# Altium footprint library PCB3 - 5x5 - placement V21.PcbLib: 19 footprints (part 1 of 2)
Each footprint in its own frame and in the unit in brackets; x right, y up, seen from the top. Pads: shape width x height; smd on the part's side, far side on the other; paste and mask are expansions set on the pad; w line width, h text height; cw(c..) or ccw(c..) is an arc to the next point about the centre after c.
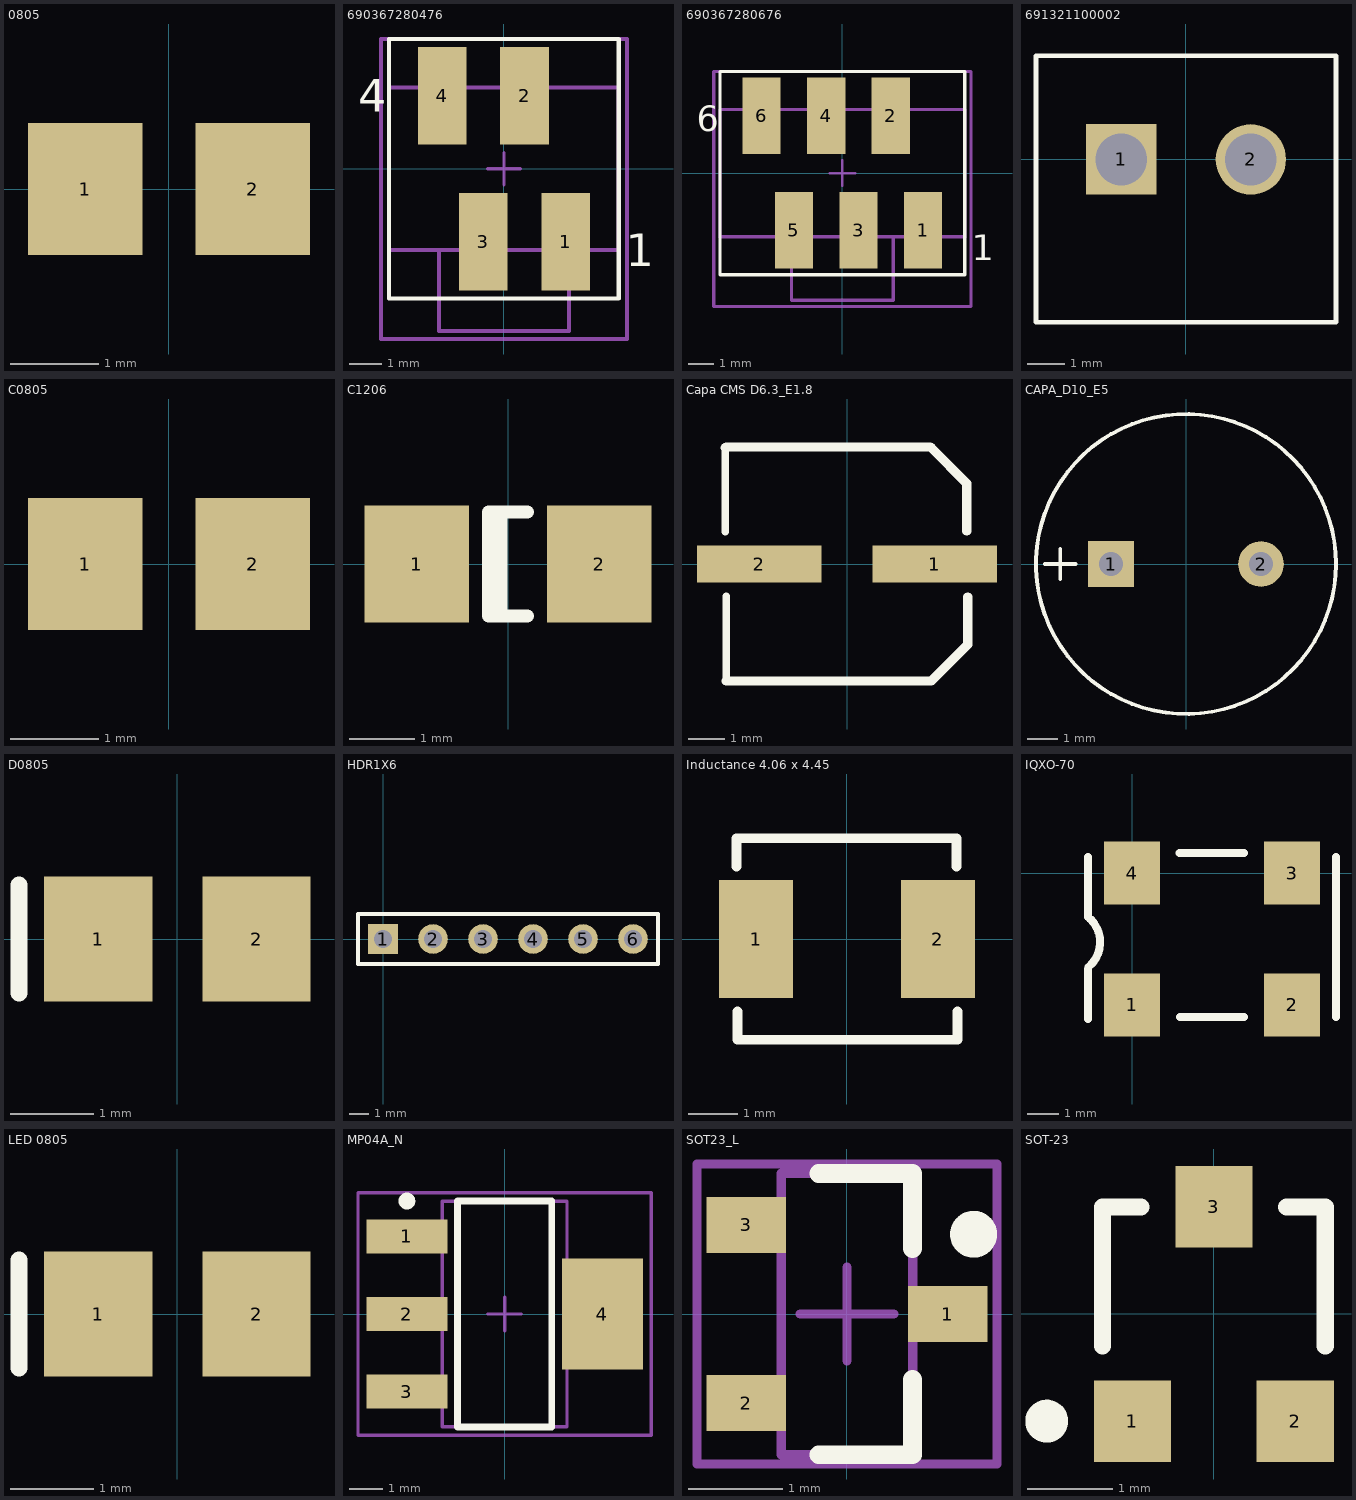
[diagram p0: the footprints below, top view; thin cyan lines are the x and y axes]

## 0805 [mm] "Chip Resistor; Body 2.0 x 1.3 mm (LxW typ)"
height 2.54
pads (2):
  rect 1.3x1.5 smd: 1(-0.95,0) 2(0.95,0)
Mechanical 27:
  text ".Comment" at -1.425,-0.425 h1
Mechanical 29:
  text ".Designator" at -1.4,-0.375 h1
3D body: height 0.78, standoff 0, extent -1,-0.625 1,0.625

## 690367280476 [mm] "without Latch, 4 pins, SMT, straight"
height 5.75
pads (4):
  rect 1.5x3 smd: 1(1.905,-2.25) 2(0.635,2.25) 3(-0.635,-2.25) 4(-1.905,2.25)
Top Overlay:
  lines w0.127: -3.54,-4 3.54,-4 3.54,4 -3.54,4 -3.54,-4
  text "1" at 3.75,-3 h1
  text "4" at -4.5,1.75 h1
Mechanical 13:
  lines w0.127: -2.47,-2.5 2.73,-2.5 ; -3.54,-2.5 -3.54,2.5 3.54,2.5 3.54,-2.5 2,-2.5 2,-5 -2,-5 -2,-2.5 -3.54,-2.5
Mechanical 15:
  lines w0.1: -0.5,0 0.5,0 ; 0,-0.5 0,0.5
  lines w0.127: -3.79,-5.25 -3.79,4 3.79,4 3.79,-5.25 -3.79,-5.25
3D body: height 5.7, standoff -0.05, extent -3.54,-5 3.54,3.5

## 690367280676 [mm] "without Latch, 6 pins, SMT, straight"
height 5.75
pads (6):
  rect 1.5x3 smd: 1(3.175,-2.25) 2(1.905,2.25) 3(0.635,-2.25) 4(-0.635,2.25) 5(-1.905,-2.25) 6(-3.175,2.25)
Top Overlay:
  lines w0.127: -4.81,-4 4.81,-4 4.81,4 -4.81,4 -4.81,-4
  text "6" at -5.715,1.651 h1
  text "1" at 5.08,-3.429 h1
Mechanical 13:
  lines w0.127: -4.81,-2.5 4.81,-2.5 4.81,2.5 -4.81,2.5 -4.81,-2.5 ; -2,-5 -2,-2.502 2,-2.502 2,-5 -2,-5
Mechanical 15:
  lines w0.1: -0.5,0 0.5,0 ; 0,-0.5 0,0.5
  lines w0.127: -5.06,-5.25 -5.06,4 5.06,4 5.06,-5.25 -5.06,-5.25
3D body: height 5.75, standoff 0, extent -4.81,-5 4.81,3.5

## 691321100002 [mm] "3,50mm - PCB Vertical - 02p"
height 9.2
pads (2):
  rect 1.9x1.9 hole 1.4: 1(-1.75,0)
  round 1.9 hole 1.4: 2(1.75,0)
Top Overlay:
  lines w0.127: -4.05,-4.4 4.05,-4.4 4.05,2.8 -4.05,2.8 -4.05,-4.4
3D body: height 9.21, standoff -3.49, extent -4.05,-4.4 4.05,2.8

## C0805 [mm] "Chip Resistor; Body 2.0 x 1.3 mm (LxW typ)"
height 2.54
pads (2):
  rect 1.3x1.5 smd: 1(-0.95,0) 2(0.95,0)
3D body: height 0.78, standoff 0, extent -0.975,-0.625 1.025,0.625

## C1206 [mm] "Chip Capacitor; Body 3.2 x 1.6 mm (LxW typ)"
height 1.35
pads (2):
  rect 1.6x1.8 smd: 1(-1.4,0) 2(1.4,0)
Top Overlay:
  lines w0.2: -0.11,-0.8 -0.11,0.8 ; 0.3,-0.8 -0.3,-0.8 -0.3,0.8 0.3,0.8

## Capa CMS D6.3_E1.8 [mm]
pads (2):
  rect 3.4x1 smd: 1(2.4,0) 2(-2.4,0)
Top Overlay:
  lines w0.2: -3.325,0.875 -3.325,3.175 ; -3.3,-3.2 -3.3,-0.875
  lines w0.254: -3.325,3.175 -3.3,3.2 2.275,3.2 ; -3.3,-3.2 2.3,-3.2 3.2,-2.3 ; 2.3,3.175 3.275,2.2 3.275,0.9 ; 2.325,-3.175 3.3,-2.2 3.3,-0.9
3D body: height 8, standoff 0, extent -3.775,-3.3 3.825,3.3

## CAPA_D10_E5 [mm]
pads (2):
  rect 1.524x1.524 hole 0.8: 1(-2.5,0)
  round 1.524 hole 0.8: 2(2.5,0)
Top Overlay:
  circle w0.127: c0,0 r5
  lines w0.127: -4.699,0 -3.683,0 ; -4.191,-0.508 -4.191,0.508
3D body: height 12, standoff -2.5, extent -5,-5 5,5

## D0805 [mm] "Chip Capacitor; Body 2.0 x 1.2 mm (LxW typ)"
height 1.1
pads (2):
  rect 1.3x1.5 smd: 1(-0.95,0) 2(0.95,0)
Top Overlay:
  lines w0.2: -1.9,-0.65 -1.9,0.65
3D body: height 0.76, standoff 0, extent -1.175,-0.675 1.125,0.675

## HDR1X6 [mm] "Connector; Header; 6 Position"
pads (6):
  rect 1.5x1.5 hole 0.9: 1(0,0)
  round 1.5 hole 0.9: 2(2.54,0) 3(5.08,0) 4(7.62,0) 5(10.16,0) 6(12.7,0)
Top Overlay:
  lines w0.2: -1.27,-1.27 13.97,-1.27 13.97,1.27 -1.27,1.27 -1.27,-1.27

## Inductance 4.06 x 4.45 [mm]
pads (2):
  rect 1.5x2.4 smd: 1(-1.85,0) 2(1.85,0)
Top Overlay:
  lines w0.2: -2.25,1.475 -2.25,2.05 2.225,2.05 2.225,1.475 ; -2.225,-1.475 -2.225,-2.05 2.25,-2.05 2.25,-1.475

## IQXO-70 [mil]
pads (4):
  rect 70x79 smd: 1(0,-165) 2(200,-165) 3(200,0) 4(0,0)
Top Overlay:
  lines w10: -55,-182.5 -55,-120 ; -55,-55 -55,20 ; -54.28,-117.28 ccw(c-79.96,-86.46) -52.3,-57.41 ; 59.06,25 140,25 ; 60,-180 140,-180 ; 255,-180 255,20
3D body: height 48.03, standoff 0, extent -17.71,-153.53 226.38,-7.86

## LED 0805 [mm] "Chip Capacitor; Body 2.0 x 1.2 mm (LxW typ)"
height 1.1
pads (2):
  rect 1.3x1.5 smd: 1(-0.95,0) 2(0.95,0)
Top Overlay:
  lines w0.2: -1.9,-0.65 -1.9,0.65
3D body: height 1.1, standoff 0, extent -1.01,-0.625 1.01,0.625

## MP04A_N [mm] "SOT223, 4-Leads, Body 6.5x3.5mm, Pitch 2.3mm, Lead Span 7mm, IPC Medium Density"
height 1.8
pads (4):
  rect 2.4x1 smd: 1(-2.9,2.3) 2(-2.9,0) 3(-2.9,-2.3)
  rect 2.4x3.3 smd: 4(2.9,0)
Top Overlay:
  circle w0.25: c-2.9,3.35 r0.125
  lines w0.2: -1.4,-3.35 1.4,-3.35 1.4,3.35 -1.4,3.35 -1.4,-3.35
Mechanical 13:
  lines w0.1: -1.85,-3.35 1.85,-3.35 1.85,3.35 -1.85,3.35 -1.85,-3.35
Mechanical 15:
  lines w0.1: -0.5,0 0.5,0 ; 0,-0.5 0,0.5 ; -4.35,-3.6 4.35,-3.6 4.35,3.6 -4.35,3.6 -4.35,-3.6
3D body: height 1.8, standoff 0, extent -1.85,-3.35 1.85,3.35

## SOT23_L [mm] "SOT23, 3-Leads, Body 2.9x1.3mm, Pitch 0.95mm, Lead Span 2.3mm - Reverse Pinning, IPC High Density"
height 1.1
pads (3):
  rect 0.85x0.6 smd: 1(1.075,0) 2(-1.075,-0.95) 3(-1.075,0.95)
Top Overlay:
  circle w0.25: c1.35,0.85 r0.125
  lines w0.2: -0.3,-1.5 0.7,-1.5 0.7,-0.7 ; -0.3,1.5 0.7,1.5 0.7,0.7
Mechanical 13:
  lines w0.1: -0.7,-1.5 -0.7,1.5 0.7,1.5 0.7,-1.5 -0.7,-1.5
Mechanical 15:
  lines w0.1: -0.5,0 0.5,0 ; 0,-0.5 0,0.5 ; -1.6,-1.6 -1.6,1.6 1.6,1.6 1.6,-1.6 -1.6,-1.6
3D body: height 1.1, standoff 0, extent -0.7,-1.5 0.7,1.5

## SOT-23 [mm] "SOT-23; 3 Leads; Body 3.0 x 2.6 mm, inc. leads (LxW max)"
height 1.1
pads (3):
  rect 0.9x0.95 smd: 1(-0.95,-1.25) 2(0.95,-1.25) 3(0,1.25)
Top Overlay:
  circle w0.25: c-1.95,-1.25 r0.125
  lines w0.2: -1.3,-0.375 -1.3,1.25 -0.85,1.25 ; 0.85,1.25 1.3,1.25 1.3,-0.375